# EAGLE library part MCP23009 (library interfaces)
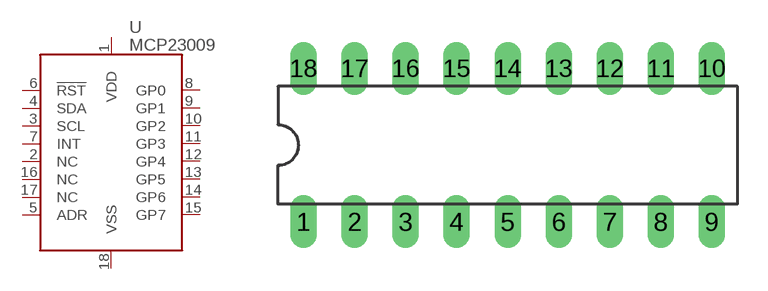
[diagram p11: symbol with the pads of DIP18; footprint DIP18]

Designator prefix U

## MCP23009N  [DIP18]
1  VDD
2  NC
3  SCL
4  SDA
5  ADR
6  !RST
7  INT
8  GP0
9  GP1
10  GP2
11  GP3
12  GP4
13  GP5
14  GP6
15  GP7
16  NC
17  NC
18  VSS

## Footprint DIP18 (pad centres in mm)
Dual In Line Package
drill 0.813 long: 1 -10.16,-3.81; 2 -7.62,-3.81; 3 -5.08,-3.81; 4 -2.54,-3.81; 5 0,-3.81; 6 2.54,-3.81; 7 5.08,-3.81; 8 7.62,-3.81; 9 10.16,-3.81; 10 10.16,3.81; 11 7.62,3.81; 12 5.08,3.81; 13 2.54,3.81; 14 0,3.81; 15 -2.54,3.81; 16 -5.08,3.81; 17 -7.62,3.81; 18 -10.16,3.81